# EAGLE library part MAX9924 (library maxim)
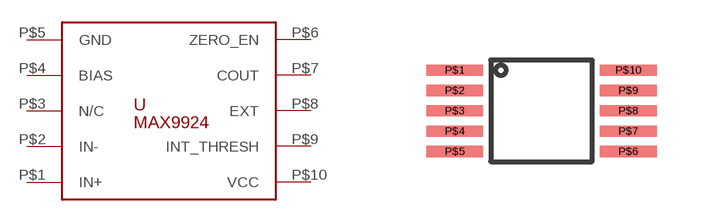
[diagram p0: symbol with the pads of UMAX10; footprint UMAX10]

Designator prefix -

## MAX9924  [UMAX10]
P$1  IN+
P$2  IN-
P$3  N/C
P$4  BIAS
P$5  GND
P$6  ZERO_EN
P$7  COUT
P$8  EXT
P$9  INT_THRESH
P$10  VCC

## Footprint UMAX10 (pad centres in mm)
smd 1.422 x 0.279: P$1 -2.171,1.016; P$2 -2.171,0.508; P$3 -2.171,0; P$4 -2.171,-0.508; P$5 -2.171,-1.016; P$6 2.171,-1.016; P$7 2.171,-0.508; P$8 2.171,0; P$9 2.171,0.508; P$10 2.171,1.016